# Altium schematic symbol library Buttons and Switches - Husky Robotics.SchLib: 1 symbol
Pins are listed as number, name and electrical type; pins without a type are passive.

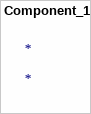
[diagram p0: symbol Component_1]

## Component_1
designator *
footprint Model Name (Model Description)
footprint Model Name (Model Description)